# Altium footprint library Renesas Logic.PcbLib: 85 footprints (part 6 of 6)
Each footprint in its own frame and in the unit in brackets; x right, y up, seen from the top. Pads: shape width x height; smd on the part's side, far side on the other; paste and mask are expansions set on the pad; w line width, h text height; cw(c..) or ccw(c..) is an arc to the next point about the centre after c.
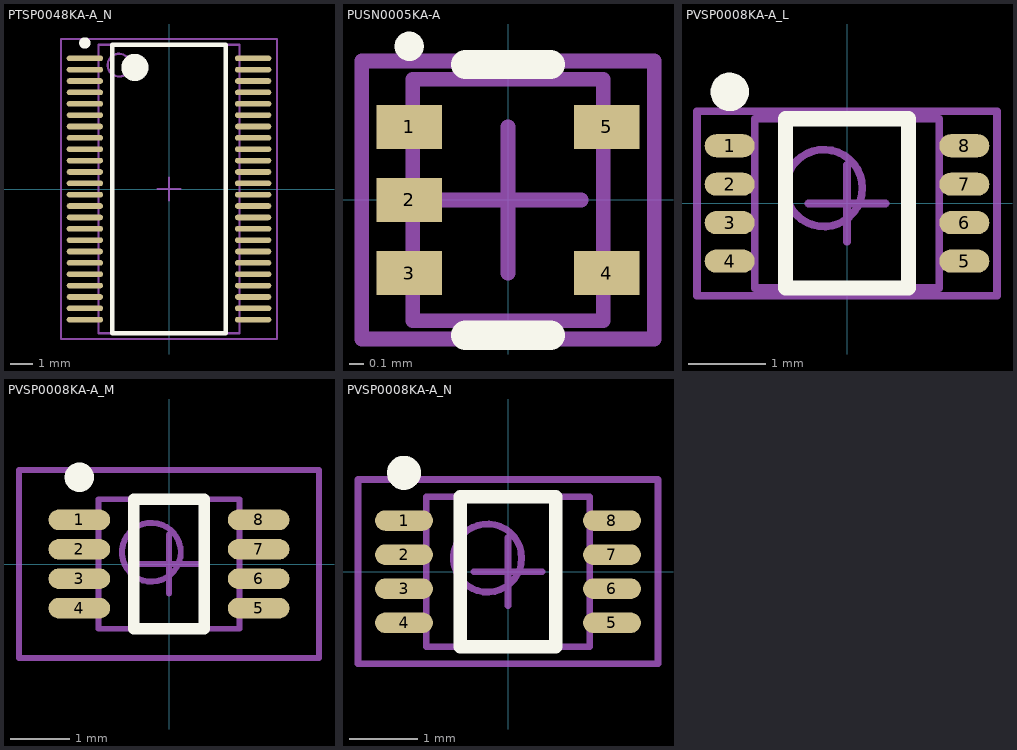
[diagram p5: the footprints below, top view; thin cyan lines are the x and y axes]

## PTSP0048KA-A_N [mm] "TSSOP, 48-Leads, Body 12.5x6.1mm, Pitch 0.5mm, IPC Medium Density"
height 1.2
pads (48):
  oval 1.6x0.25 smd: 1(-3.7,5.75) 2(-3.7,5.25) 3(-3.7,4.75) 4(-3.7,4.25) 5(-3.7,3.75) 6(-3.7,3.25) 7(-3.7,2.75) 8(-3.7,2.25) 9(-3.7,1.75) 10(-3.7,1.25) 11(-3.7,0.75) 12(-3.7,0.25) 13(-3.7,-0.25) 14(-3.7,-0.75) 15(-3.7,-1.25) 16(-3.7,-1.75) 17(-3.7,-2.25) 18(-3.7,-2.75) 19(-3.7,-3.25) 20(-3.7,-3.75) 21(-3.7,-4.25) 22(-3.7,-4.75) 23(-3.7,-5.25) 24(-3.7,-5.75) 25(3.7,-5.75) 26(3.7,-5.25) 27(3.7,-4.75) 28(3.7,-4.25) 29(3.7,-3.75) 30(3.7,-3.25) 31(3.7,-2.75) 32(3.7,-2.25) 33(3.7,-1.75) 34(3.7,-1.25) 35(3.7,-0.75) 36(3.7,-0.25) 37(3.7,0.25) 38(3.7,0.75) 39(3.7,1.25) 40(3.7,1.75) 41(3.7,2.25) 42(3.7,2.75) 43(3.7,3.25) 44(3.7,3.75) 45(3.7,4.25) 46(3.7,4.75) 47(3.7,5.25) 48(3.7,5.75)
Top Overlay:
  circle w0.25: c-3.7,6.425 r0.125
  circle w0.6: c-1.5,5.35 r0.3
  lines w0.2: -2.5,-6.35 -2.5,6.35 2.5,6.35 2.5,-6.35 -2.5,-6.35
Mechanical 13:
  circle w0.1: c-2.2,5.45 r0.5
  lines w0.1: -3.1,-6.35 -3.1,6.35 3.1,6.35 3.1,-6.35 -3.1,-6.35
Mechanical 15:
  lines w0.1: -0.5,0 0.5,0 ; 0,-0.5 0,0.5 ; -4.75,-6.6 -4.75,6.6 4.75,6.6 4.75,-6.6 -4.75,-6.6
3D body: height 1.2, standoff 0.08, extent -3.1,-6.35 3.1,6.35

## PUSN0005KA-A [mm] "SOP, 5-Flat Leads, Body 1.6x1.2x0.55mm, Pitch 0.5mm, Renesas Recommended"
height 0.6
pads (5):
  rect 0.45x0.3 smd: 1(-0.675,0.5) 2(-0.675,0) 3(-0.675,-0.5) 4(0.675,-0.5) 5(0.675,0.5)
Top Overlay:
  circle w0.1: c-0.675,1.05 r0.05
  lines w0.2: -0.29,-0.925 0.29,-0.925 ; -0.29,0.925 0.29,0.925
Mechanical 13:
  lines w0.1: -0.65,-0.825 -0.65,0.825 0.65,0.825 0.65,-0.825 -0.65,-0.825
Mechanical 15:
  lines w0.1: -0.5,0 0.5,0 ; 0,-0.5 0,0.5 ; -1,-0.95 -1,0.95 1,0.95 1,-0.95 -1,-0.95
3D body: height 0.6, standoff 0, extent -0.649,-0.824 0.649,0.824

## PVSP0008KA-A_L [mm] "TSSOP, 8-Leads, Body 2x2.3mm, Pitch 0.5mm, IPC High Density"
height 0.87
pads (8):
  oval 0.65x0.3 smd: 1(-1.525,0.75) 2(-1.525,0.25) 3(-1.525,-0.25) 4(-1.525,-0.75) 5(1.525,-0.75) 6(1.525,-0.25) 7(1.525,0.25) 8(1.525,0.75)
Top Overlay:
  circle w0.25: c-1.525,1.45 r0.125
  lines w0.2: -0.8,-1.1 0.8,-1.1 0.8,1.1 -0.8,1.1 -0.8,-1.1
Mechanical 13:
  circle w0.1: c-0.3,0.2 r0.5
  lines w0.1: -1.2,-1.1 1.2,-1.1 1.2,1.1 -1.2,1.1 -1.2,-1.1
Mechanical 15:
  lines w0.1: -0.5,0 0.5,0 ; 0,-0.5 0,0.5 ; -1.95,-1.2 1.95,-1.2 1.95,1.2 -1.95,1.2 -1.95,-1.2
3D body: height 0.87, standoff 0, extent -1.2,-1.1 1.2,1.1

## PVSP0008KA-A_M [mm] "TSSOP, 8-Leads, Body 2x2.3mm, Pitch 0.5mm, IPC Low Density"
height 0.87
pads (8):
  oval 1.05x0.35 smd: 1(-1.525,0.75) 2(-1.525,0.25) 3(-1.525,-0.25) 4(-1.525,-0.75) 5(1.525,-0.75) 6(1.525,-0.25) 7(1.525,0.25) 8(1.525,0.75)
Top Overlay:
  circle w0.25: c-1.525,1.475 r0.125
  lines w0.2: -0.6,-1.1 -0.6,1.1 0.6,1.1 0.6,-1.1 -0.6,-1.1
Mechanical 13:
  circle w0.1: c-0.3,0.2 r0.5
  lines w0.1: -1.2,-1.1 -1.2,1.1 1.2,1.1 1.2,-1.1 -1.2,-1.1
Mechanical 15:
  lines w0.1: -0.5,0 0.5,0 ; 0,-0.5 0,0.5 ; -2.55,-1.6 -2.55,1.6 2.55,1.6 2.55,-1.6 -2.55,-1.6
3D body: height 0.87, standoff 0, extent -1.2,-1.1 1.2,1.1

## PVSP0008KA-A_N [mm] "TSSOP, 8-Leads, Body 2x2.3mm, Pitch 0.5mm, IPC Medium Density"
height 0.87
pads (8):
  oval 0.85x0.3 smd: 1(-1.525,0.75) 2(-1.525,0.25) 3(-1.525,-0.25) 4(-1.525,-0.75) 5(1.525,-0.75) 6(1.525,-0.25) 7(1.525,0.25) 8(1.525,0.75)
Top Overlay:
  circle w0.25: c-1.525,1.45 r0.125
  lines w0.2: -0.7,-1.1 0.7,-1.1 0.7,1.1 -0.7,1.1 -0.7,-1.1
Mechanical 13:
  circle w0.1: c-0.3,0.2 r0.5
  lines w0.1: -1.2,-1.1 1.2,-1.1 1.2,1.1 -1.2,1.1 -1.2,-1.1
Mechanical 15:
  lines w0.1: -0.5,0 0.5,0 ; 0,-0.5 0,0.5 ; -2.2,-1.35 2.2,-1.35 2.2,1.35 -2.2,1.35 -2.2,-1.35
3D body: height 0.87, standoff 0, extent -1.2,-1.1 1.2,1.1